# EAGLE library part CBM_391425 (library u1200)
CBM 391425 "Budgie"
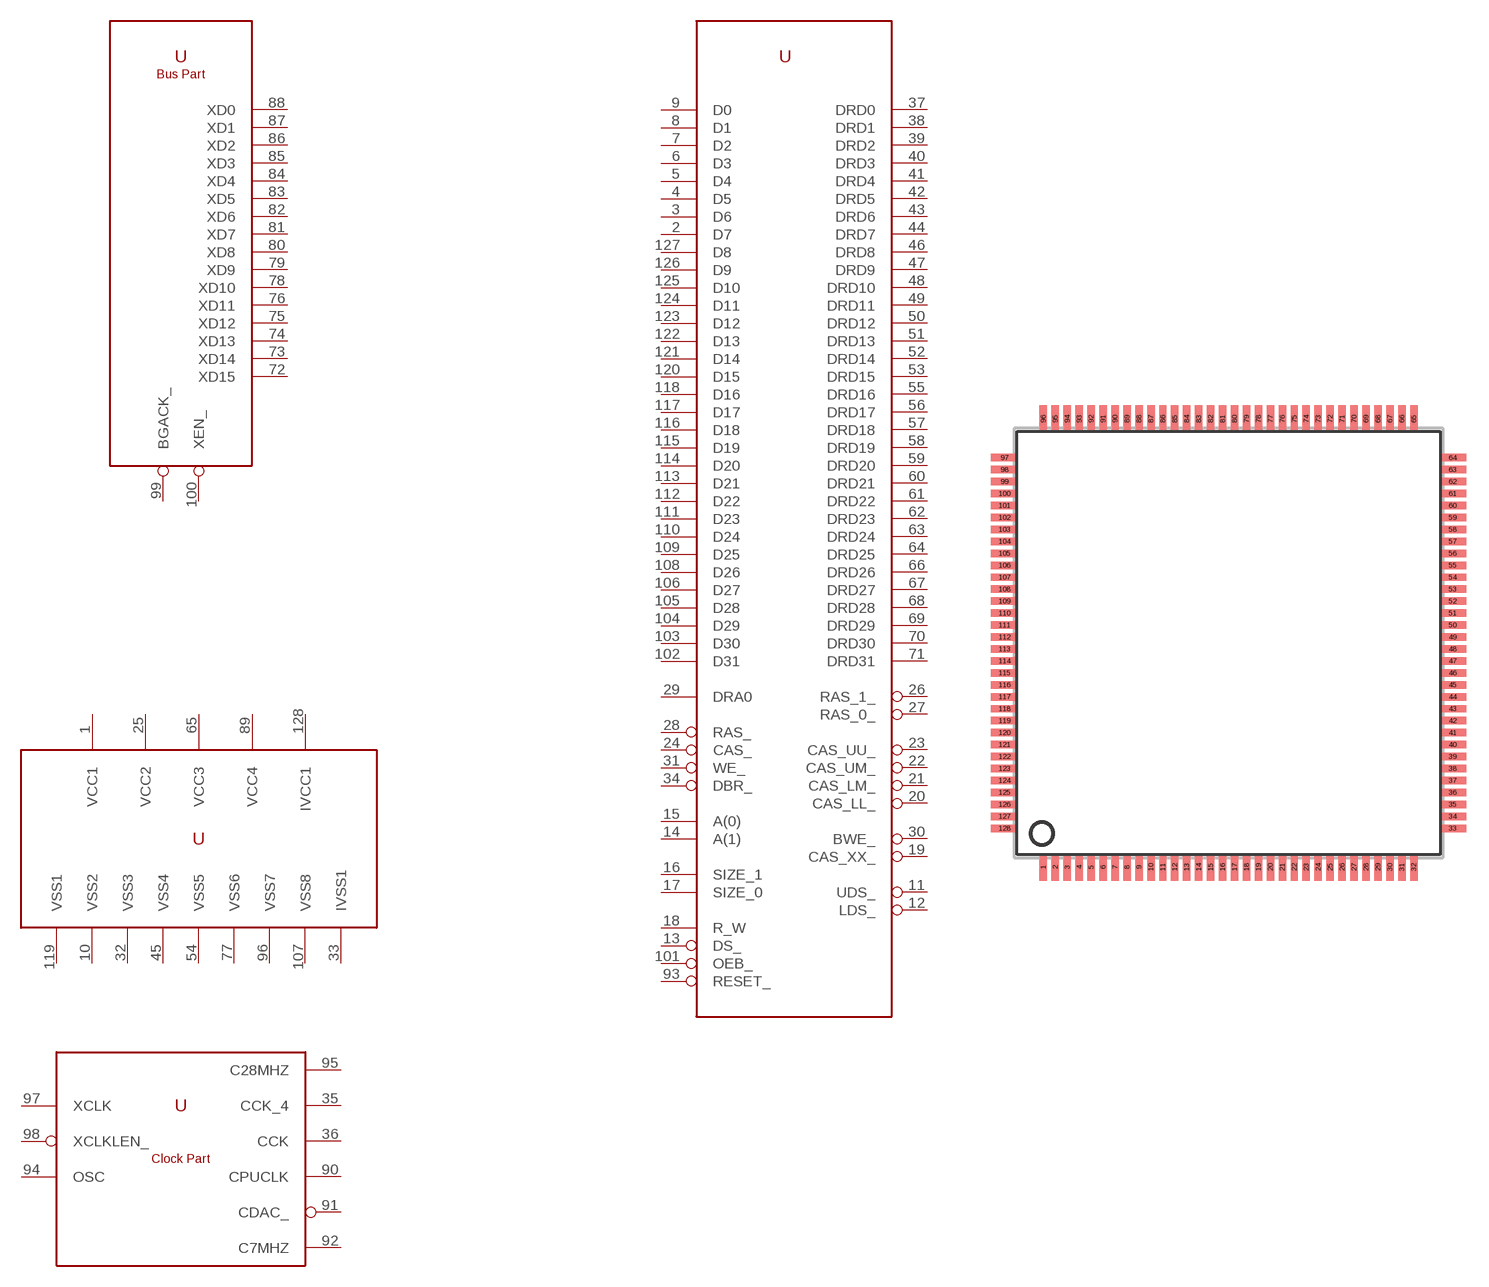
[diagram p2: symbol with the pads of SQFP-S-28X28-128; footprint SQFP-S-28X28-128]

Designator prefix -; gates G$1=CBM_391425 G$2=CBM_391425_BUS_PART G$3=CBM_391425_PWR G$4=CBM_391425_CLOCK

## CBM_391425  [SQFP-S-28X28-128]
1  G$3:VCC1
2  G$1:D7
3  G$1:D6
4  G$1:D5
5  G$1:D4
6  G$1:D3
7  G$1:D2
8  G$1:D1
9  G$1:D0
10  G$3:VSS2
11  G$1:UDS_
12  G$1:LDS_
13  G$1:DS_
14  G$1:A(1)
15  G$1:A(0)
16  G$1:SIZE_1
17  G$1:SIZE_0
18  G$1:R_W
19  G$1:CAS_XX_
20  G$1:CAS_LL_
21  G$1:CAS_LM_
22  G$1:CAS_UM_
23  G$1:CAS_UU_
24  G$1:CAS_
25  G$3:VCC2
26  G$1:RAS_1_
27  G$1:RAS_0_
28  G$1:RAS_
29  G$1:DRA0
30  G$1:BWE_
31  G$1:WE_
32  G$3:VSS3
33  G$3:IVSS1
34  G$1:DBR_
35  G$4:CCK_4
36  G$4:CCK
37  G$1:DRD0
38  G$1:DRD1
39  G$1:DRD2
40  G$1:DRD3
41  G$1:DRD4
42  G$1:DRD5
43  G$1:DRD6
44  G$1:DRD7
45  G$3:VSS4
46  G$1:DRD8
47  G$1:DRD9
48  G$1:DRD10
49  G$1:DRD11
50  G$1:DRD12
51  G$1:DRD13
52  G$1:DRD14
53  G$1:DRD15
54  G$3:VSS5
55  G$1:DRD16
56  G$1:DRD17
57  G$1:DRD18
58  G$1:DRD19
59  G$1:DRD20
60  G$1:DRD21
61  G$1:DRD22
62  G$1:DRD23
63  G$1:DRD24
64  G$1:DRD25
65  G$3:VCC3
66  G$1:DRD26
67  G$1:DRD27
68  G$1:DRD28
69  G$1:DRD29
70  G$1:DRD30
71  G$1:DRD31
72  G$2:XD15
73  G$2:XD14
74  G$2:XD13
75  G$2:XD12
76  G$2:XD11
77  G$3:VSS6
78  G$2:XD10
79  G$2:XD9
80  G$2:XD8
81  G$2:XD7
82  G$2:XD6
83  G$2:XD5
84  G$2:XD4
85  G$2:XD3
86  G$2:XD2
87  G$2:XD1
88  G$2:XD0
89  G$3:VCC4
90  G$4:CPUCLK
91  G$4:CDAC_
92  G$4:C7MHZ
93  G$1:RESET_
94  G$4:OSC
95  G$4:C28MHZ
96  G$3:VSS7
97  G$4:XCLK
98  G$4:XCLKLEN_
99  G$2:BGACK_
100  G$2:XEN_
101  G$1:OEB_
102  G$1:D31
103  G$1:D30
104  G$1:D29
105  G$1:D28
106  G$1:D27
107  G$3:VSS8
108  G$1:D26
109  G$1:D25
110  G$1:D24
111  G$1:D23
112  G$1:D22
113  G$1:D21
114  G$1:D20
115  G$1:D19
116  G$1:D18
117  G$1:D17
118  G$1:D16
119  G$3:VSS1
120  G$1:D15
121  G$1:D14
122  G$1:D13
123  G$1:D12
124  G$1:D11
125  G$1:D10
126  G$1:D9
127  G$1:D8
128  G$3:IVCC1

## Footprint SQFP-S-28X28-128 (pad centres in mm)
QFP128 shrink quad flat pack, square
smd 0.5 x 1.8: 1 -12.4,-15; 2 -11.6,-15; 3 -10.8,-15; 4 -10,-15; 5 -9.2,-15; 6 -8.4,-15; 7 -7.6,-15; 8 -6.8,-15; 9 -6,-15; 10 -5.2,-15; 11 -4.4,-15; 12 -3.6,-15; 13 -2.8,-15; 14 -2,-15; 15 -1.2,-15; 16 -0.4,-15; 17 0.4,-15; 18 1.2,-15; 19 2,-15; 20 2.8,-15; 21 3.6,-15; 22 4.4,-15; 23 5.2,-15; 24 6,-15; 25 6.8,-15; 26 7.6,-15; 27 8.4,-15; 28 9.2,-15; 29 10,-15; 30 10.8,-15; 31 11.6,-15; 32 12.4,-15; 65 12.4,15; 66 11.6,15; 67 10.8,15; 68 10,15; 69 9.2,15; 70 8.4,15; 71 7.6,15; 72 6.8,15; 73 6,15; 74 5.2,15; 75 4.4,15; 76 3.6,15; 77 2.8,15; 78 2,15; 79 1.2,15; 80 0.4,15; 81 -0.4,15; 82 -1.2,15; 83 -2,15; 84 -2.8,15; 85 -3.6,15; 86 -4.4,15; 87 -5.2,15; 88 -6,15; 89 -6.8,15; 90 -7.6,15; 91 -8.4,15; 92 -9.2,15; 93 -10,15; 94 -10.8,15; 95 -11.6,15; 96 -12.4,15
smd 1.8 x 0.5: 33 15,-12.4; 34 15,-11.6; 35 15,-10.8; 36 15,-10; 37 15,-9.2; 38 15,-8.4; 39 15,-7.6; 40 15,-6.8; 41 15,-6; 42 15,-5.2; 43 15,-4.4; 44 15,-3.6; 45 15,-2.8; 46 15,-2; 47 15,-1.2; 48 15,-0.4; 49 15,0.4; 50 15,1.2; 51 15,2; 52 15,2.8; 53 15,3.6; 54 15,4.4; 55 15,5.2; 56 15,6; 57 15,6.8; 58 15,7.6; 59 15,8.4; 60 15,9.2; 61 15,10; 62 15,10.8; 63 15,11.6; 64 15,12.4; 97 -15,12.4; 98 -15,11.6; 99 -15,10.8; 100 -15,10; 101 -15,9.2; 102 -15,8.4; 103 -15,7.6; 104 -15,6.8; 105 -15,6; 106 -15,5.2; 107 -15,4.4; 108 -15,3.6; 109 -15,2.8; 110 -15,2; 111 -15,1.2; 112 -15,0.4; 113 -15,-0.4; 114 -15,-1.2; 115 -15,-2; 116 -15,-2.8; 117 -15,-3.6; 118 -15,-4.4; 119 -15,-5.2; 120 -15,-6; 121 -15,-6.8; 122 -15,-7.6; 123 -15,-8.4; 124 -15,-9.2; 125 -15,-10; 126 -15,-10.8; 127 -15,-11.6; 128 -15,-12.4